# Altium schematic symbol library SN74LVC3G14DCUR INVERTER.SchLib: 1 symbol
Pins are listed as number, name and electrical type; pins without a type are passive.

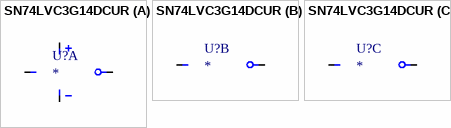
[diagram p0: symbol SN74LVC3G14DCUR]

## SN74LVC3G14DCUR
designator U?
part A pins: 1 1A, 4 GND, 7 1Y, 8 Vcc
part B pins: 3 2A, 5 2Y
part C pins: 2 3Y, 6 3A